# Altium footprint library STM32.PcbLib: 68 footprints (part 5 of 5)
Each footprint in its own frame and in the unit in brackets; x right, y up, seen from the top. Pads: shape width x height; smd on the part's side, far side on the other; paste and mask are expansions set on the pad; w line width, h text height; cw(c..) or ccw(c..) is an arc to the next point about the centre after c.
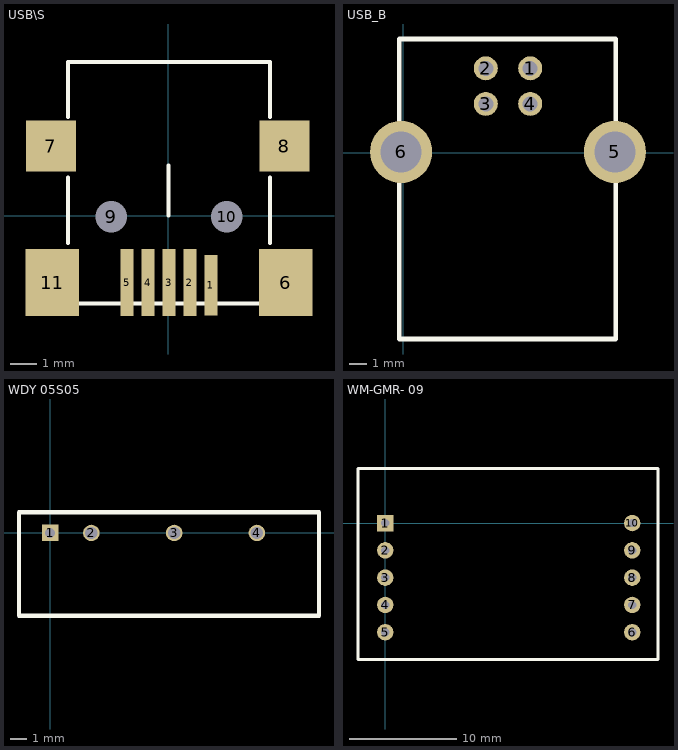
[diagram p4: the footprints below, top view; thin cyan lines are the x and y axes]

## USB\S [mm]
height 2.2
pads (11):
  rect 0.508x2.3 smd: 1(1.627,-2.65)
  rect 0.508x2.54 smd: 2(0.827,-2.55) 3(0.027,-2.55) 4(-0.773,-2.55) 5(-1.573,-2.55)
  rect 2.032x2.54 smd: 6(4.472,-2.55) 11(-4.418,-2.55)
  rect 1.9x1.95 smd: 7(-4.473,2.65) 8(4.427,2.65)
  round 0.94 hole 1.2 unplated: 9(-2.173,-0.05) 10(2.227,-0.05)
Top Overlay:
  lines w0.152: -3.822,-1.05 -3.822,1.45 ; -3.822,3.75 -3.822,5.85 3.878,5.85 3.878,3.75 ; -3.772,-3.35 3.827,-3.35 ; 0,0 0,1.905 ; 3.878,-1.05 3.878,1.45

## USB_B [mm]
pads (6):
  round 1.35 hole 0.85: 1(7.15,4.75) 2(4.65,4.75) 3(4.65,2.75) 4(7.15,2.75)
  round 3.5 hole 2.3: 5(11.92,0.04) 6(-0.12,0.04)
Top Overlay:
  lines w0.254: 1.689,6.401 11.976,6.401 11.976,5.258 11.976,-2.87 ; 1.943,6.401 -0.216,6.401 -0.216,4.496 -0.216,2.337 -0.216,-10.49 0.419,-10.49 11.976,-10.49 11.976,-2.489

## WDY 05S05 [mil]
pads (4):
  rect 40x40 hole 25: 1(0,0)
  round 40 hole 30: 2(100,0) 3(300,0) 4(500,0)
Top Overlay:
  lines w10: -75,-200 -75,50 650,50 650,-200 -75,-200

## WM-GMR- 09 [mil]
pads (10):
  rect 60x60 hole 30: 1(0,0)
  round 60 hole 30: 2(0,-100) 3(0,-200) 4(0,-300) 5(0,-400) 6(905.51,-400) 7(905.51,-300) 8(905.51,-200) 9(905.51,-100) 10(905.51,0)
Top Overlay:
  lines w10: -100,-500 1000,-500 1000,200 -100,200 -100,-500